# EAGLE library part RFID (library RFID)
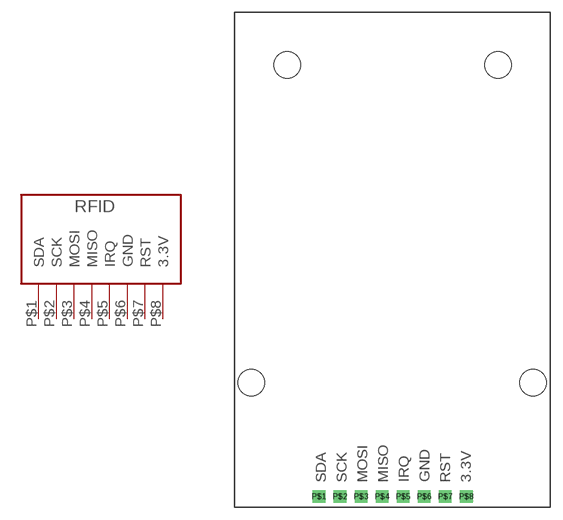
[diagram p0: symbol with the pads of RFID; footprint RFID]

Designator prefix -

## RFID  [RFID]
P$1  SDA
P$2  SCK
P$3  MOSI
P$4  MISO
P$5  IRQ
P$6  GND
P$7  RST
P$8  3.3V

## Footprint RFID (pad centres in mm)
drill 1.016 square: P$1 10.16,1.27; P$2 12.7,1.27; P$3 15.24,1.27; P$4 17.78,1.27; P$5 20.32,1.27; P$6 22.86,1.27; P$7 25.4,1.27; P$8 27.94,1.27
hole 3.2 at 31.75,53.34
hole 3.2 at 6.35,53.34
hole 3.2 at 36,15
hole 3.2 at 2,15